# Altium schematic symbol library Schlib1.SchLib: 2 symbols
Pins are listed as number, name and electrical type; pins without a type are passive.

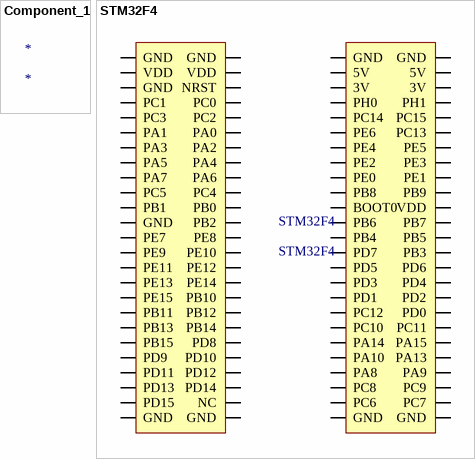
[diagram p0: symbols Component_1 to STM32F4]

## Component_1
designator *

## STM32F4
designator STM32F4
footprint STM32F4
pins: 3V1 3V, 3V2 3V, 5V1 5V, 5V2 5V, BOOT0, GND1 GND, GND2 GND, GND3 GND, GND4 GND, GND5 GND, GND6 GND, GND7 GND, GND8 GND, GND9 GND, GND10 GND, NC, NRST, PA0, PA1, PA2, PA3, PA4, PA5, PA6, PA7, PA8, PA9, PA10, PA13, PA14, PA15, PB0, PB1, PB2, PB3, PB4, PB5, PB6, PB7, PB8, PB9, PB10, PB11, PB12, PB13, PB14, PB15, PC0, PC1, PC2, PC3, PC4, PC5, PC6, PC7, PC8, PC9, PC10, PC11, PC12, PC13, PC14, PC15, PD0, PD1, PD2, PD3, PD4, PD5, PD6, PD7, PD8, PD9, PD10, PD11, PD12, PD13, PD14, PD15, PE0, PE1, PE2, PE3, PE4, PE5, PE6, PE7, PE8, PE9, PE10, PE11, PE12, PE13, PE14, PE15, PH0, PH1, VDD1 VDD, VDD2 VDD, VDD3 VDD